# Altium footprint library Discrete.PcbLib: 51 footprints (part 1 of 4)
Each footprint in its own frame and in the unit in brackets; x right, y up, seen from the top. Pads: shape width x height; smd on the part's side, far side on the other; paste and mask are expansions set on the pad; w line width, h text height; cw(c..) or ccw(c..) is an arc to the next point about the centre after c.
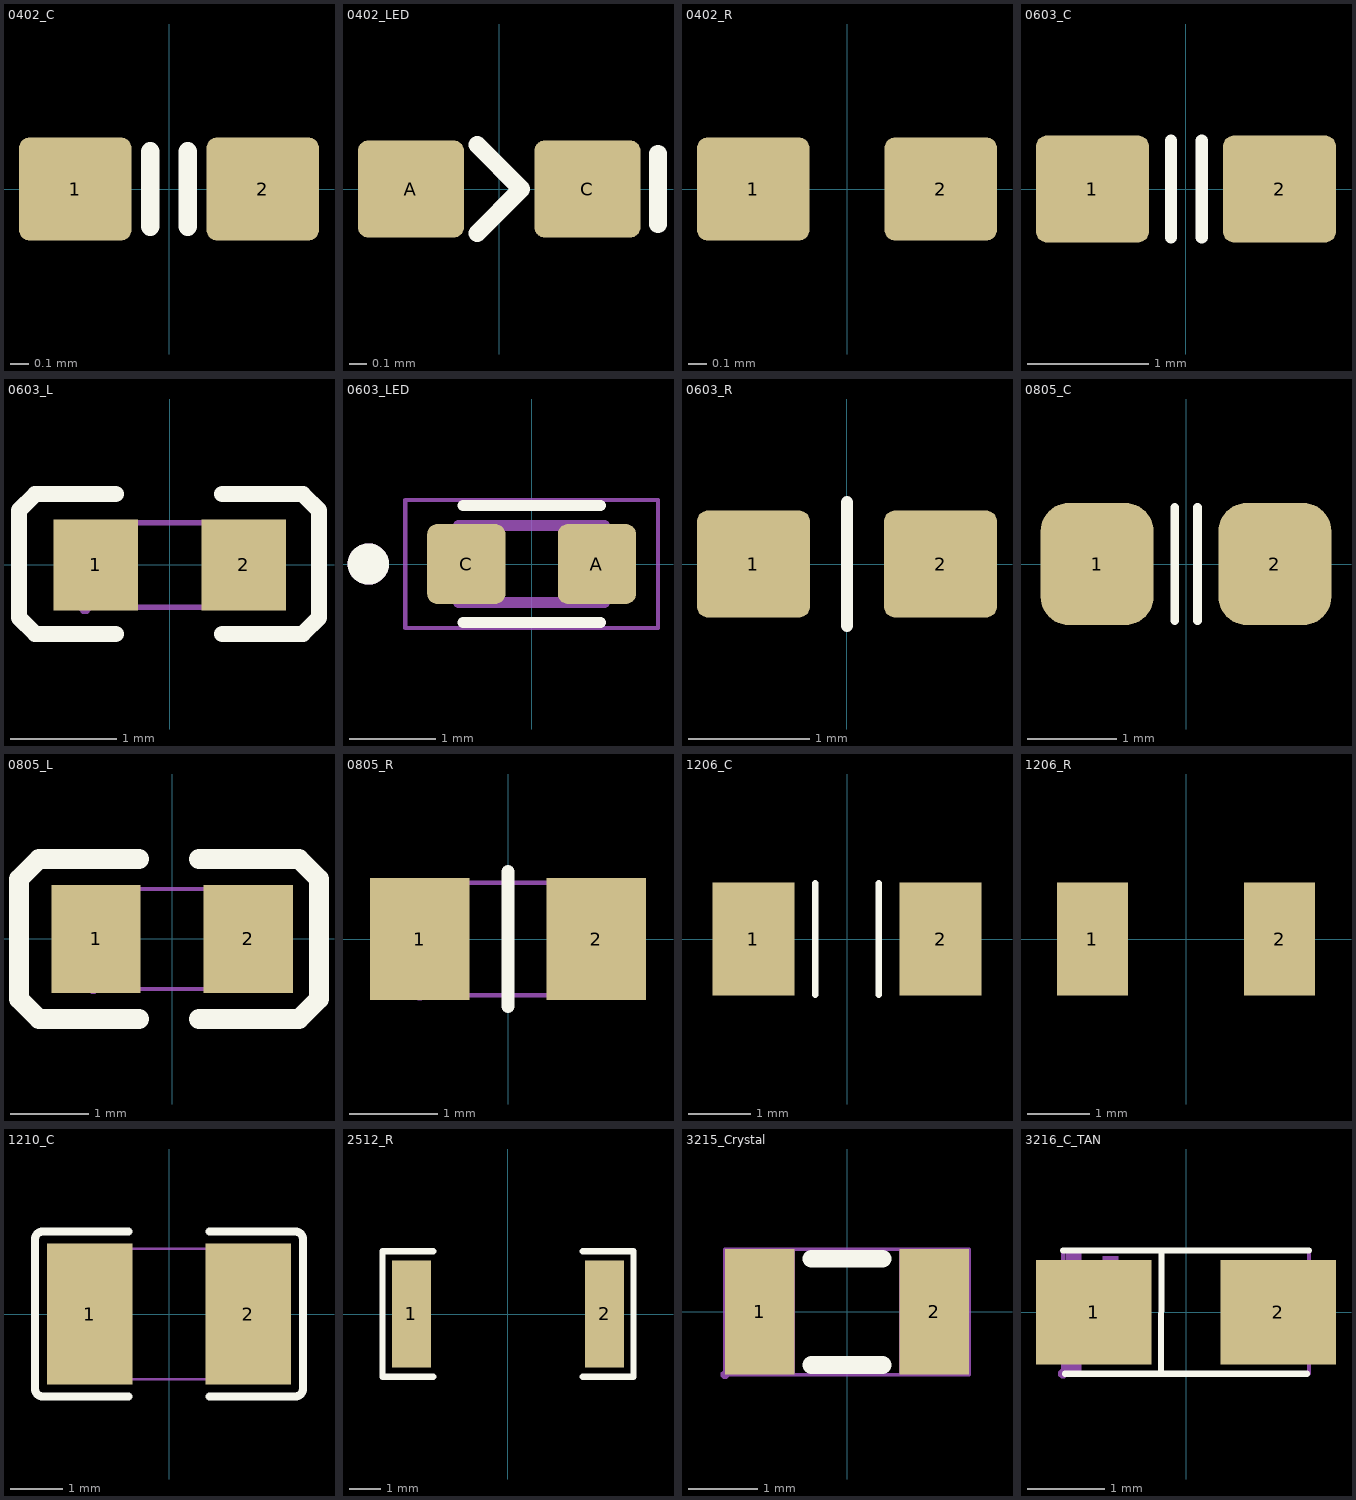
[diagram p0: the footprints below, top view; thin cyan lines are the x and y axes]

## 0402_C [mm]
pads (2):
  rrect20% 0.6x0.55 smd mask+0.051: 1(-0.5,0) 2(0.5,0)
Top Overlay:
  lines w0.1: -0.1,-0.2 -0.1,0.2 ; 0.1,-0.2 0.1,0.2
3D body "CAPC-0402-T0.55-BN.stp": height 0.52, standoff -0.03, extent -0.525,-0.275 0.525,0.275

## 0402_LED [mm]
pads (2):
  rrect20% 0.6x0.55 smd mask+0.051: A(-0.5,0) C(0.5,0)
Top Overlay:
  lines w0.1: -0.125,-0.25 0.125,0 ; 0.9,-0.2 0.9,0.2 ; -0.125,0.25 0.125,0 ; -0.125,0.25 -0.125,0.25 ; 0.125,0 0.125,0
3D body "User Library-LED-0402.STEP": height 0.45, standoff 0, extent -0.505,-0.25 0.505,0.25

## 0402_R [mm]
pads (2):
  rrect20% 0.6x0.55 smd mask+0.051: 1(-0.5,0) 2(0.5,0)
3D body "User Library-RES_1005-0402.STEP": height 0.41, standoff 0, extent -0.575,-0.275 0.575,0.275

## 0603_C [mm]
pads (2):
  rrect20% 0.93x0.88 smd: 1(-0.77,0) 2(0.77,0)
Top Overlay:
  lines w0.1: -0.124,-0.4 -0.124,0.4 ; 0.13,-0.4 0.13,0.4
3D body "CAPC-0603-T0.9-BN.stp": height 0.9, standoff 0, extent -0.85,-0.45 0.85,0.45

## 0603_L [mm]
pads (2):
  rect 0.8x0.864 smd paste-100 mask+0.051: 1(-0.7,0) 2(0.7,0)
Top Overlay:
  lines w0.152: -0.51,-0.651 -1.272,-0.651 -1.424,-0.499 -1.424,0.517 -1.272,0.67 -0.51,0.67 ; 0.496,-0.651 1.258,-0.651 1.411,-0.499 1.411,0.517 1.258,0.67 0.496,0.67
Top Paste:
  region: 0.264,0.154 0.264,-0.122 0.538,-0.416 1.042,-0.416 1.106,-0.352 1.106,0.384 1.042,0.448 0.538,0.448
  region: -0.252,0.143 -0.252,-0.134 -0.526,-0.427 -1.029,-0.427 -1.093,-0.363 -1.093,0.373 -1.029,0.437 -0.526,0.437
Mechanical 15:
  region: -0.74,-0.4 -0.74,-0.376 -0.775,-0.341 -0.824,-0.341 -0.859,-0.375 -0.86,-0.4 -0.859,-0.424 -0.825,-0.459 -0.776,-0.459 -0.741,-0.424
  region: -0.5,-0.4 -0.8,-0.4 -0.8,0.4 -0.5,0.4
  region: 0.8,-0.4 0.5,-0.4 0.5,0.4 0.8,0.4
  lines w0.051: -0.8,-0.4 -0.8,0.4 0.8,0.4 0.8,-0.4 -0.8,-0.4
3D body "ferrite_bead_0603.STEP": height 0.8, standoff 0, extent -0.825,-0.406 0.775,0.394

## 0603_LED [mm]
pads (2):
  rrect25% 0.91x0.93 smd: A(0.76,0) C(-0.76,0)
Top Overlay:
  circle w0.24: c-1.9,0 r0.12
  lines w0.127: -0.8,-0.68 0.8,-0.68 ; -0.8,0.68 0.8,0.68
Mechanical 13:
  circle w0.24: c-1.9,0 r0.12
  lines w0.127: -0.85,-0.45 0.85,-0.45 0.85,0.45 -0.85,0.45 -0.85,-0.45
Mechanical 15:
  lines w0.05: -1.47,-0.744 1.47,-0.744 1.47,0.744 -1.47,0.744 -1.47,-0.744
3D body "0603 Amber.step": height 0.55, standoff 0, extent -0.8,-0.4 0.8,0.4

## 0603_R [mm]
pads (2):
  rrect20% 0.93x0.88 smd: 1(-0.77,0) 2(0.77,0)
Top Overlay:
  lines w0.1: 0,-0.508 0,0.508
3D body "User Library-RES_1609-0603.STEP": height 0.56, standoff 0, extent -0.85,-0.4 0.85,0.4

## 0805_C [mm]
pads (2):
  rrect50% 1.27x1.372 smd: 1(-1,0) 2(1,0)
Top Overlay:
  lines w0.1: -0.127,-0.635 -0.127,0.635 ; 0.127,-0.635 0.127,0.635
3D body "CAPC-0805-T0.95-BN.stp": height 0.95, standoff 0, extent -1.05,-0.635 1.05,0.715

## 0805_L [mm]
pads (2):
  rect 1.133x1.377 smd paste-100 mask+0.051: 1(-0.966,0) 2(0.966,0)
Top Overlay:
  lines w0.254: -0.421,-1.016 -1.691,-1.016 -1.945,-0.762 -1.945,-0.635 -1.945,0.762 -1.691,1.016 -1.564,1.016 -0.421,1.016 ; 0.341,-1.016 1.484,-1.016 1.611,-1.016 1.865,-0.762 1.865,0.635 1.865,0.762 1.611,1.016 0.341,1.016
Top Paste:
  region: -0.36,-0.22 -0.36,0.22 -0.745,0.689 -1.433,0.689 -1.533,0.589 -1.533,-0.588 -1.433,-0.688 -0.745,-0.688
  region: 0.36,-0.22 0.36,0.22 0.745,0.689 1.433,0.689 1.533,0.589 1.533,-0.588 1.433,-0.688 0.745,-0.688
Mechanical 15:
  region: 1,-0.637 1,0.638 0.6,0.638 0.6,-0.637
  region: -1,-0.637 -1,0.638 -0.6,0.638 -0.6,-0.637
  region: -0.94,-0.637 -0.94,-0.613 -0.975,-0.577 -1.025,-0.577 -1.06,-0.612 -1.06,-0.637 -1.06,-0.662 -1.025,-0.697 -0.975,-0.697 -0.94,-0.662
  lines w0.051: -1,-0.637 -1,0.638 1,0.638 1,-0.637 -1,-0.637
3D body "ferrite_bead_0805.STEP": height 0.9, standoff 0, extent -0.975,-0.61 1.025,0.59

## 0805_R [mm]
pads (2):
  rect 1.133x1.377 smd paste-100 mask+0.051: 1(-1,0) 2(1,0)
Top Overlay:
  lines w0.152: 0,-0.762 0,0.762
Top Paste:
  region: 0.45,-0.64 0.45,-0.22 0.895,-0.22 0.895,0.23 0.455,0.23 0.45,0.64 0.5,0.69 1.65,0.69 1.7,0.64 1.7,-0.64 1.65,-0.69 0.5,-0.69
  region: -1.7,-0.64 -1.7,0.64 -1.65,0.69 -0.5,0.69 -0.45,0.64 -0.445,0.23 -0.895,0.23 -0.895,-0.22 -0.455,-0.22 -0.45,-0.64 -0.5,-0.69 -1.65,-0.69
Mechanical 15:
  region: 1,-0.637 1,0.637 0.6,0.637 0.6,-0.637
  region: -1,-0.637 -1,0.637 -0.6,0.637 -0.6,-0.637
  region: -0.94,-0.638 -0.941,-0.614 -0.976,-0.58 -1.024,-0.58 -1.059,-0.613 -1.06,-0.637 -1.059,-0.661 -1.024,-0.695 -0.976,-0.695 -0.941,-0.662
  lines w0.051: -1,-0.637 1,-0.637 1,0.637 -1,0.637 -1,-0.637
3D body "R0805 AC0805.step": height 0.5, standoff 0, extent -1,-0.625 1,0.625

## 1206_C [mm]
pads (2):
  rect 1.3x1.8 smd: 1(-1.49,0) 2(1.49,0)
Top Overlay:
  lines w0.1: -0.508,-0.889 -0.508,0.889 ; 0.508,-0.889 0.508,0.889
3D body "CAPC-1206-T1.4-BN.stp": height 1.4, standoff 0, extent -1.675,-0.875 1.675,0.875

## 1206_R [mm]
pads (2):
  rect 1.13x1.8 smd: 1(-1.49,0) 2(1.49,0)
3D body "User Library-RES_3216-1206.STEP": height 0.85, standoff 0, extent -1.7,-0.864 1.65,0.866

## 1210_C [mm]
pads (2):
  rect 1.635x2.7 smd paste-100 mask+0.051: 1(-1.517,0) 2(1.517,0)
Top Overlay:
  lines w0.152: -0.776,-1.579 -2.411,-1.579 cw(c-2.411,-1.426) -2.564,-1.426 -2.564,1.426 cw(c-2.411,1.426) -2.411,1.579 -0.776,1.579 ; 0.776,-1.579 2.411,-1.579 ccw(c2.411,-1.426) 2.564,-1.426 2.564,1.426 ccw(c2.411,1.426) 2.411,1.579 0.776,1.579
Top Paste:
  region: -0.7,-1.25 -0.7,-0.559 -0.8,-0.459 -1.156,-0.459 -1.256,-0.359 -1.256,0.359 -1.156,0.459 -0.8,0.459 -0.7,0.559 -0.7,1.25 -0.8,1.35 -2.235,1.35 -2.335,1.25 -2.335,-1.25 -2.235,-1.35 -0.8,-1.35
  region: 0.7,-1.25 0.7,-0.559 0.8,-0.459 1.156,-0.459 1.256,-0.359 1.256,0.359 1.156,0.459 0.8,0.459 0.7,0.559 0.7,1.25 0.8,1.35 2.235,1.35 2.335,1.25 2.335,-1.25 2.235,-1.35 0.8,-1.35
Mechanical 15:
  region: 1.6,-1.25 1.6,1.25 1,1.25 1,-1.25
  region: -1.6,-1.25 -1.6,1.25 -1,1.25 -1,-1.25
  region: -1.54,-1.25 -1.541,-1.226 -1.576,-1.192 -1.624,-1.192 -1.659,-1.226 -1.66,-1.25 -1.659,-1.274 -1.624,-1.308 -1.576,-1.308 -1.541,-1.274
  lines w0.051: -1.6,-1.25 1.6,-1.25 1.6,1.25 -1.6,1.25 -1.6,-1.25
3D body "Ceramic_Capacitor_1210_h63mil.step": height 1.61, standoff 0.01, extent -1.6,-1.25 1.6,1.25

## 2512_R [mm]
pads (2):
  rect 1.25x3.42 smd: 1(-3.1,0) 2(3.1,0)
Top Overlay:
  lines w0.2: -2.4,-2.01 -4.025,-2.01 -4.025,2.01 -2.4,2.01 ; 2.4,-2.01 4.025,-2.01 4.025,2.01 2.4,2.01
3D body "User Library-res2512_body.STEP": height 0.62, standoff 0, extent -3.159,-1.6 3.16,1.6

## 3215_Crystal [mm]
pads (2):
  rect 1x1.8 smd: 1(-1.25,0) 2(1.25,0)
Top Overlay:
  lines w0.254: -0.508,-0.762 0.508,-0.762 ; -0.508,0.762 0.508,0.762
Mechanical 15:
  region: -1.75,-0.9 -1.75,0.9 -0.75,0.9 -0.75,-0.9
  region: 0.75,-0.9 0.75,0.9 1.75,0.9 1.75,-0.9
  region: -1.69,-0.9 -1.69,-0.875 -1.725,-0.84 -1.775,-0.84 -1.81,-0.875 -1.81,-0.9 -1.81,-0.925 -1.775,-0.96 -1.725,-0.96 -1.69,-0.925
  lines w0.051: -1.75,-0.9 1.75,-0.9 1.75,0.9 -1.75,0.9 -1.75,-0.9
3D body "CRYSTAL_SMD_3215.STEP": height 0.9, standoff 0, extent -1.6,-0.75 1.6,0.75

## 3216_C_TAN [mm] "3216 Tantalum capacitor"
pads (2):
  rect 1.5x1.359 smd: 1(-1.2,0) 2(1.2,0)
Top Overlay:
  lines w0.08: -1.6,0.8 1.6,0.8 ; -1.575,-0.8 1.575,-0.8 ; -0.323,-0.8 -0.32,0.8
Mechanical 6:
  region: -1.081,0.724 -0.878,0.724 -0.878,-0.673 -1.081,-0.673
  region: -0.61,0.13 -0.61,-0.08 -1.45,-0.08 -1.45,0.13
  region: -1.363,-0.813 -1.567,-0.813 -1.567,-0.483 -1.363,-0.483
  region: -1.563,0.813 -1.36,0.813 -1.36,0.483 -1.563,0.483
  region: 1.501,0.13 1.501,-0.08 0.661,-0.08 0.661,0.13
Mechanical 15:
  region: 1.6,0.625 1.6,-0.575 0.8,-0.575 0.8,0.625
  region: -0.8,0.625 -0.8,-0.575 -1.6,-0.575 -1.6,0.625
  region: -1.54,-0.8 -1.54,-0.775 -1.575,-0.74 -1.625,-0.74 -1.66,-0.775 -1.66,-0.8 -1.66,-0.825 -1.625,-0.86 -1.575,-0.86 -1.54,-0.825
  lines w0.051: -1.6,-0.8 -1.6,0.8 1.6,0.8 1.6,-0.8 -1.6,-0.8
3D body "Tant Cap SMD size A _ 3216-18.stp": height 1.64, standoff 0.01, extent -1.755,-0.825 1.705,0.775